# Altium footprint library TPS75901KTTR.PcbLib: 3 footprints
Each footprint in its own frame and in the unit in brackets; x right, y up, seen from the top. Pads: shape width x height; smd on the part's side, far side on the other; paste and mask are expansions set on the pad; w line width, h text height; cw(c..) or ccw(c..) is an arc to the next point about the centre after c.
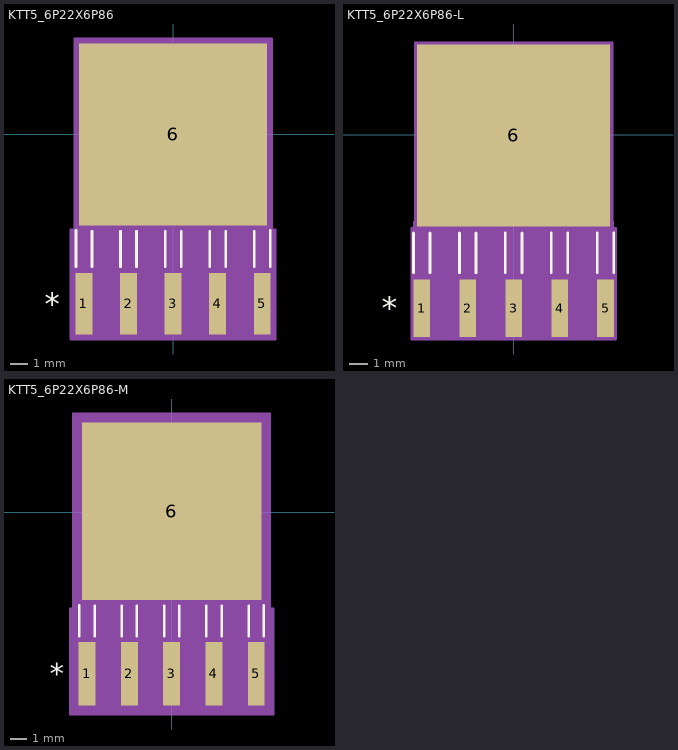
[diagram p0: the footprints below, top view; thin cyan lines are the x and y axes]

## KTT5_6P22X6P86 [mil]
pads (6):
  rect 38x138 smd paste+0 mask+0: 1(-200,-380) 2(-100,-380) 3(0,-380) 4(100,-380) 5(200,-380)
  rect 422x408 smd paste+0 mask+0: 6(0,0)
Top Overlay:
  lines w6: -218,-297 -218,-215.07 ; -182,-297 -182,-217.1 ; -118,-297 -118,-217.1 ; -82,-297 -82,-217.1 ; -18,-297 -18,-217.1 ; 18,-297 18,-217.1 ; 82,-297 82,-217.1 ; 118,-297 118,-217.1 ; 182,-297 182,-217.1 ; 218,-297 218,-215.07
  text "*" at -287.5,-405 h50
Mechanical 13:
  lines w1: -218,-435 -218,-190 -182,-190 -182,-435 -218,-435 ; -210,-190 210,-190 210,190 -210,190 -210,-190 ; -118,-435 -118,-190 -82,-190 -82,-435 -118,-435 ; -18,-435 -18,-190 18,-190 18,-435 -18,-435 ; 82,-435 82,-190 118,-190 118,-435 82,-435 ; 182,-435 182,-190 218,-190 218,-435 182,-435
  text "*" at -212.5,-205 h50
Mechanical 15:
  region: -229,-214 -221,-214 -221,214 221,214 221,-214 229,-214 229,-459 -229,-459
  lines w6: -229,-459 229,-459 229,-214 221,-214 221,214 -221,214 -221,-214 -229,-214 -229,-459
3D body: height 10, standoff 0, extent 0,0 10,10

## KTT5_6P22X6P86-L [mil]
pads (6):
  rect 36x126 smd paste+0 mask+0: 1(-200,-378) 2(-100,-378) 3(0,-378) 4(100,-378) 5(200,-378)
  rect 420x396 smd paste+0 mask+0: 6(0,-2)
Top Overlay:
  lines w6: -218,-301 -218,-214 ; -182,-301 -182,-214 ; -118,-301 -118,-214 ; -82,-301 -82,-214 ; -18,-301 -18,-214 ; 18,-301 18,-214 ; 82,-301 82,-214 ; 118,-301 118,-214 ; 182,-301 182,-214 ; 218,-301 218,-214
  text "*" at -287.5,-403 h50
Mechanical 13:
  lines w1: -218,-435 -218,-190 -182,-190 -182,-435 -218,-435 ; -210,-190 210,-190 210,190 -210,190 -210,-190 ; -118,-435 -118,-190 -82,-190 -82,-435 -118,-435 ; -18,-435 -18,-190 18,-190 18,-435 -18,-435 ; 82,-435 82,-190 118,-190 118,-435 82,-435 ; 182,-435 182,-190 218,-190 218,-435 182,-435
  text "*" at -212.5,-205 h50
Mechanical 15:
  region: -222,-204 -214,-204 -214,200 214,200 214,-204 222,-204 222,-445 -222,-445
  lines w6: -222,-445 222,-445 222,-204 214,-204 214,200 -214,200 -214,-204 -222,-204 -222,-445
3D body: height 10, standoff 0, extent 0,0 10,10

## KTT5_6P22X6P86-M [mil]
pads (6):
  rect 40x150 smd paste+0 mask+0: 1(-200,-382) 2(-100,-382) 3(0,-382) 4(100,-382) 5(200,-382)
  rect 424x420 smd paste+0 mask+0: 6(0,2)
Top Overlay:
  lines w6: -218,-293 -218,-219.65 ; -182,-293 -182,-221.1 ; -118,-293 -118,-221.1 ; -82,-293 -82,-221.1 ; -18,-293 -18,-221.1 ; 18,-293 18,-221.1 ; 82,-293 82,-221.1 ; 118,-293 118,-221.1 ; 182,-293 182,-221.1 ; 218,-293 218,-219.65
  text "*" at -287.5,-407 h50
Mechanical 13:
  lines w1: -218,-435 -218,-190 -182,-190 -182,-435 -218,-435 ; -210,-190 210,-190 210,190 -210,190 -210,-190 ; -118,-435 -118,-190 -82,-190 -82,-435 -118,-435 ; -18,-435 -18,-190 18,-190 18,-435 -18,-435 ; 82,-435 82,-190 118,-190 118,-435 82,-435 ; 182,-435 182,-190 218,-190 218,-435 182,-435
  text "*" at -212.5,-205 h50
Mechanical 15:
  region: -240,-228 -232,-228 -232,232 232,232 232,-228 240,-228 240,-477 -240,-477
  lines w6: -240,-477 240,-477 240,-228 232,-228 232,232 -232,232 -232,-228 -240,-228 -240,-477
3D body: height 10, standoff 0, extent 0,0 10,10